# Altium footprint library 4245.240-6.01.PcbLib: 1 footprints
Each footprint in its own frame and in the unit in brackets; x right, y up, seen from the top. Pads: shape width x height; smd on the part's side, far side on the other; paste and mask are expansions set on the pad; w line width, h text height; cw(c..) or ccw(c..) is an arc to the next point about the centre after c.
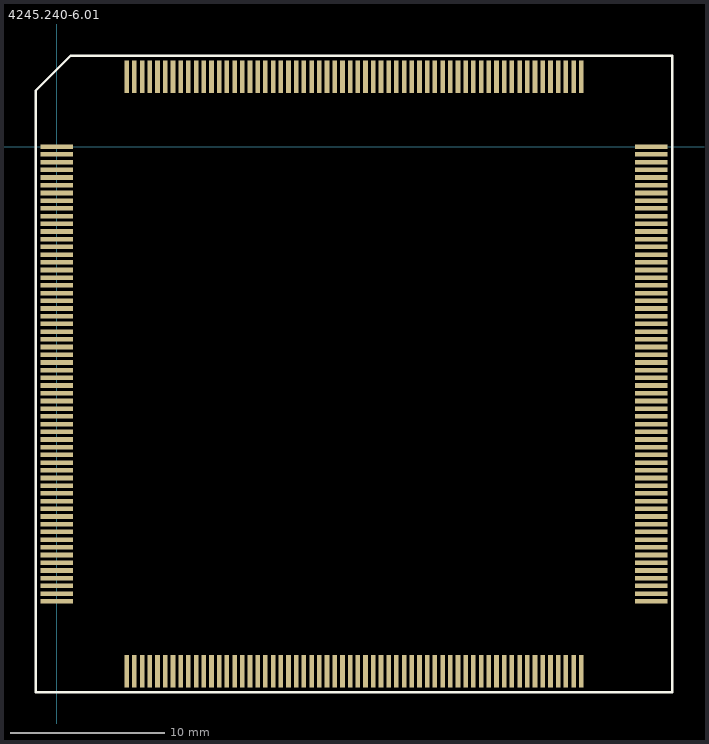
[diagram p0: the footprint, top view; thin cyan lines are the x and y axes]

## 4245.240-6.01 [mm]
pads (240):
  rect 2.1x0.3 smd: 1(0,0) 2(0,-0.5) 3(0,-1) 4(0,-1.5) 5(0,-2) 6(0,-2.5) 7(0,-3) 8(0,-3.5) 9(0,-4) 10(0,-4.5) 11(0,-5) 12(0,-5.5) 13(0,-6) 14(0,-6.5) 15(0,-7) 16(0,-7.5) 17(0,-8) 18(0,-8.5) 19(0,-9) 20(0,-9.5) 21(0,-10) 22(0,-10.5) 23(0,-11) 24(0,-11.5) 25(0,-12) 26(0,-12.5) 27(0,-13) 28(0,-13.5) 29(0,-14) 30(0,-14.5) 31(0,-15) 32(0,-15.5) 33(0,-16) 34(0,-16.5) 35(0,-17) 36(0,-17.5) 37(0,-18) 38(0,-18.5) 39(0,-19) 40(0,-19.5) 41(0,-20) 42(0,-20.5) 43(0,-21) 44(0,-21.5) 45(0,-22) 46(0,-22.5) 47(0,-23) 48(0,-23.5) 49(0,-24) 50(0,-24.5) 51(0,-25) 52(0,-25.5) 53(0,-26) 54(0,-26.5) 55(0,-27) 56(0,-27.5) 57(0,-28) 58(0,-28.5) 59(0,-29) 60(0,-29.5) 121(38.6,-29.5) 122(38.6,-29) 123(38.6,-28.5) 124(38.6,-28) 125(38.6,-27.5) 126(38.6,-27) 127(38.6,-26.5) 128(38.6,-26) 129(38.6,-25.5) 130(38.6,-25) 131(38.6,-24.5) 132(38.6,-24) 133(38.6,-23.5) 134(38.6,-23) 135(38.6,-22.5) 136(38.6,-22) 137(38.6,-21.5) 138(38.6,-21) 139(38.6,-20.5) 140(38.6,-20) 141(38.6,-19.5) 142(38.6,-19) 143(38.6,-18.5) 144(38.6,-18) 145(38.6,-17.5) 146(38.6,-17) 147(38.6,-16.5) 148(38.6,-16) 149(38.6,-15.5) 150(38.6,-15) 151(38.6,-14.5) 152(38.6,-14) 153(38.6,-13.5) 154(38.6,-13) 155(38.6,-12.5) 156(38.6,-12) 157(38.6,-11.5) 158(38.6,-11) 159(38.6,-10.5) 160(38.6,-10) 161(38.6,-9.5) 162(38.6,-9) 163(38.6,-8.5) 164(38.6,-8) 165(38.6,-7.5) 166(38.6,-7) 167(38.6,-6.5) 168(38.6,-6) 169(38.6,-5.5) 170(38.6,-5) 171(38.6,-4.5) 172(38.6,-4) 173(38.6,-3.5) 174(38.6,-3) 175(38.6,-2.5) 176(38.6,-2) 177(38.6,-1.5) 178(38.6,-1) 179(38.6,-0.5) 180(38.6,0)
  rect 0.3x2.1 smd: 61(4.55,-34.05) 62(5.05,-34.05) 63(5.55,-34.05) 64(6.05,-34.05) 65(6.55,-34.05) 66(7.05,-34.05) 67(7.55,-34.05) 68(8.05,-34.05) 69(8.55,-34.05) 70(9.05,-34.05) 71(9.55,-34.05) 72(10.05,-34.05) 73(10.55,-34.05) 74(11.05,-34.05) 75(11.55,-34.05) 76(12.05,-34.05) 77(12.55,-34.05) 78(13.05,-34.05) 79(13.55,-34.05) 80(14.05,-34.05) 81(14.55,-34.05) 82(15.05,-34.05) 83(15.55,-34.05) 84(16.05,-34.05) 85(16.55,-34.05) 86(17.05,-34.05) 87(17.55,-34.05) 88(18.05,-34.05) 89(18.55,-34.05) 90(19.05,-34.05) 91(19.55,-34.05) 92(20.05,-34.05) 93(20.55,-34.05) 94(21.05,-34.05) 95(21.55,-34.05) 96(22.05,-34.05) 97(22.55,-34.05) 98(23.05,-34.05) 99(23.55,-34.05) 100(24.05,-34.05) 101(24.55,-34.05) 102(25.05,-34.05) 103(25.55,-34.05) 104(26.05,-34.05) 105(26.55,-34.05) 106(27.05,-34.05) 107(27.55,-34.05) 108(28.05,-34.05) 109(28.55,-34.05) 110(29.05,-34.05) 111(29.55,-34.05) 112(30.05,-34.05) 113(30.55,-34.05) 114(31.05,-34.05) 115(31.55,-34.05) 116(32.05,-34.05) 117(32.55,-34.05) 118(33.05,-34.05) 119(33.55,-34.05) 120(34.05,-34.05) 181(34.05,4.55) 182(33.55,4.55) 183(33.05,4.55) 184(32.55,4.55) 185(32.05,4.55) 186(31.55,4.55) 187(31.05,4.55) 188(30.55,4.55) 189(30.05,4.55) 190(29.55,4.55) 191(29.05,4.55) 192(28.55,4.55) 193(28.05,4.55) 194(27.55,4.55) 195(27.05,4.55) 196(26.55,4.55) 197(26.05,4.55) 198(25.55,4.55) 199(25.05,4.55) 200(24.55,4.55) 201(24.05,4.55) 202(23.55,4.55) 203(23.05,4.55) 204(22.55,4.55) 205(22.05,4.55) 206(21.55,4.55) 207(21.05,4.55) 208(20.55,4.55) 209(20.05,4.55) 210(19.55,4.55) 211(19.05,4.55) 212(18.55,4.55) 213(18.05,4.55) 214(17.55,4.55) 215(17.05,4.55) 216(16.55,4.55) 217(16.05,4.55) 218(15.55,4.55) 219(15.05,4.55) 220(14.55,4.55) 221(14.05,4.55) 222(13.55,4.55) 223(13.05,4.55) 224(12.55,4.55) 225(12.05,4.55) 226(11.55,4.55) 227(11.05,4.55) 228(10.55,4.55) 229(10.05,4.55) 230(9.55,4.55) 231(9.05,4.55) 232(8.55,4.55) 233(8.05,4.55) 234(7.55,4.55) 235(7.05,4.55) 236(6.55,4.55) 237(6.05,4.55) 238(5.55,4.55) 239(5.05,4.55) 240(4.55,4.55)
Top Overlay:
  lines w0.152: -1.35,-35.4 39.95,-35.4 39.95,5.9 0.9,5.9 -1.35,3.65 -1.35,-35.4